# EAGLE library part LM25085 (library BW-Active)
Buck controller
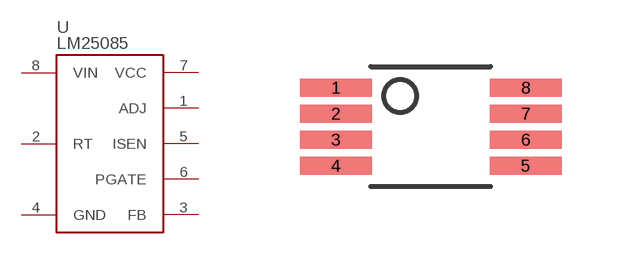
[diagram p19: symbol with the pads of VSSOP8; footprint VSSOP8]

Designator prefix U

## LM25085  [VSSOP8]
1  ADJ
2  RT
3  FB
4  GND
5  ISEN
6  PGATE
7  VCC
8  VIN

## Footprint VSSOP8 (pad centres in mm)
smd 1.8 x 0.45: 1 -2.375,0.975; 2 -2.375,0.325; 3 -2.375,-0.325; 4 -2.375,-0.975; 5 2.375,-0.975; 6 2.375,-0.325; 7 2.375,0.325; 8 2.375,0.975